# EAGLE library part DFPLAYERMINI (library dl9sec_public)
AZ-Delivery DFPlayer Mini https://www.az-delivery.de/products/mp3-player-modul
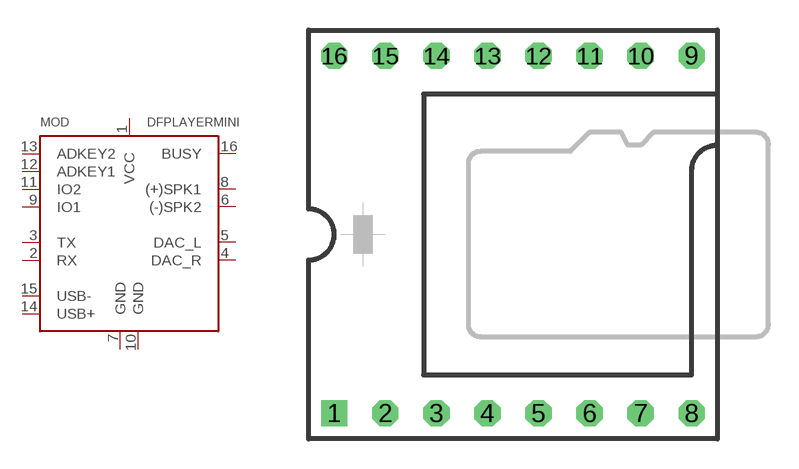
[diagram p6: symbol with the pads of DFPLAYERMINI; footprint DFPLAYERMINI]

Designator prefix MOD

## DFPLAYERMINI  [DFPLAYERMINI]
1  VCC  pwr
2  RX  pas
3  TX  pas
4  DAC_R  pas
5  DAC_L  pas
6  (-)SPK2  pas
7  GND  pwr
8  (+)SPK1  pas
9  IO1  pas
10  GND  pwr
11  IO2  pas
12  ADKEY1  pas
13  ADKEY2  pas
14  USB+  pas
15  USB-  pas
16  BUSY  pas

## Footprint DFPLAYERMINI (pad centres in mm)
AZ-Delivery DFPlayer Mini
drill 0.8 pad 1.27 square: 1 0,0
drill 0.8 pad 1.27 octagon: 2 2.54,0; 3 5.08,0; 4 7.62,0; 5 10.16,0; 6 12.7,0; 7 15.24,0; 8 17.78,0; 9 17.78,17.78; 10 15.24,17.78; 11 12.7,17.78; 12 10.16,17.78; 13 7.62,17.78; 14 5.08,17.78; 15 2.54,17.78; 16 0,17.78